# Altium footprint library Miscellaneous Devices LC.PcbLib: 559 footprints (part 34 of 35)
Each footprint in its own frame and in the unit in brackets; x right, y up, seen from the top. Pads: shape width x height; smd on the part's side, far side on the other; paste and mask are expansions set on the pad; w line width, h text height; cw(c..) or ccw(c..) is an arc to the next point about the centre after c.
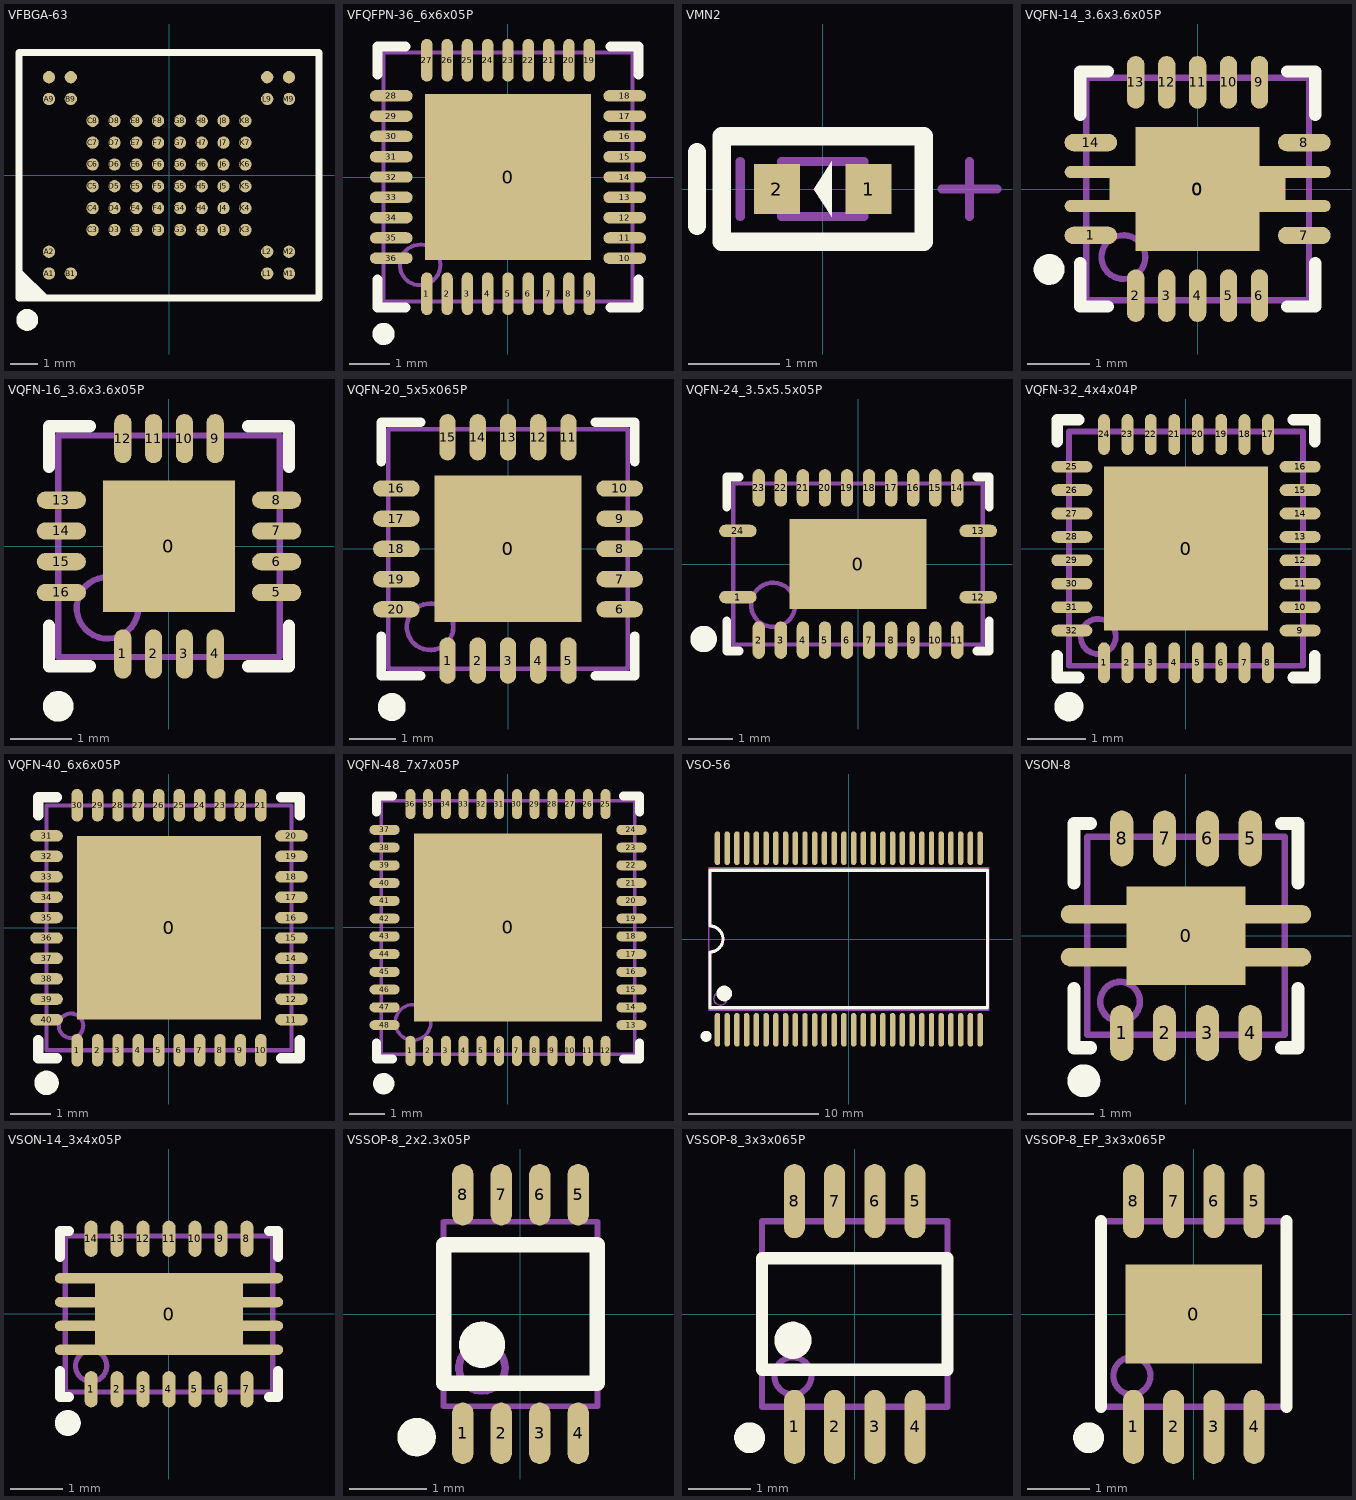
[diagram p33: the footprints below, top view; thin cyan lines are the x and y axes]

## VFBGA-63 [mm]
pads (63):
  round 0.45 smd mask+0.051: A1(-4.4,-3.6) A2(-4.4,-2.8) A9(-4.4,2.8) A10(-4.4,3.6) B1(-3.6,-3.6) B9(-3.6,2.8) B10(-3.6,3.6) C3(-2.8,-2) C4(-2.8,-1.2) C5(-2.8,-0.4) C6(-2.8,0.4) C7(-2.8,1.2) C8(-2.8,2) D3(-2,-2) D4(-2,-1.2) D5(-2,-0.4) D6(-2,0.4) D7(-2,1.2) D8(-2,2) E3(-1.2,-2) E4(-1.2,-1.2) E5(-1.2,-0.4) E6(-1.2,0.4) E7(-1.2,1.2) E8(-1.2,2) F3(-0.4,-2) F4(-0.4,-1.2) F5(-0.4,-0.4) F6(-0.4,0.4) F7(-0.4,1.2) F8(-0.4,2) G3(0.4,-2) G4(0.4,-1.2) G5(0.4,-0.4) G6(0.4,0.4) G7(0.4,1.2) G8(0.4,2) H3(1.2,-2) H4(1.2,-1.2) H5(1.2,-0.4) H6(1.2,0.4) H7(1.2,1.2) H8(1.2,2) J3(2,-2) J4(2,-1.2) J5(2,-0.4) J6(2,0.4) J7(2,1.2) J8(2,2) K3(2.8,-2) K4(2.8,-1.2) K5(2.8,-0.4) K6(2.8,0.4) K7(2.8,1.2) K8(2.8,2) L1(3.6,-3.6) L2(3.6,-2.8) L9(3.6,2.8) L10(3.6,3.6) M1(4.4,-3.6) M2(4.4,-2.8) M9(4.4,2.8) M10(4.4,3.6)
Top Overlay:
  circle w0.4: c-5.2,-5.3 r0.2
  region: -5.5,-3.5 -4.5,-4.5 -5.5,-4.5
  lines w0.2: -5.5,-3.5 -4.5,-4.5
  lines w0.254: -5.5,-4.5 5.5,-4.5 5.5,4.5 -5.5,4.5 -5.5,-4.5

## VFQFPN-36_6x6x05P [mm]
pads (37):
  rect 4.1x4.1 smd mask+0.051: 0(0,0)
  oval 0.28x1.05 smd mask+0.051: 1(-2,-2.875) 2(-1.5,-2.875) 3(-1,-2.875) 4(-0.5,-2.875) 5(0,-2.875) 6(0.5,-2.875) 7(1,-2.875) 8(1.5,-2.875) 9(2,-2.875) 19(2,2.875) 20(1.5,2.875) 21(1,2.875) 22(0.5,2.875) 23(0,2.875) 24(-0.5,2.875) 25(-1,2.875) 26(-1.5,2.875) 27(-2,2.875)
  oval 1.05x0.28 smd mask+0.051: 10(2.875,-2) 11(2.875,-1.5) 12(2.875,-1) 13(2.875,-0.5) 14(2.875,0) 15(2.875,0.5) 16(2.875,1) 17(2.875,1.5) 18(2.875,2) 28(-2.875,2) 29(-2.875,1.5) 30(-2.875,1) 31(-2.875,0.5) 32(-2.875,0) 33(-2.875,-0.5) 34(-2.875,-1) 35(-2.875,-1.5) 36(-2.875,-2)
Top Overlay:
  circle w0.3: c-3.065,-3.865 r0.125
  lines w0.254: -3.215,-2.525 -3.215,-3.215 -2.525,-3.215 ; -3.215,2.525 -3.215,3.215 -2.525,3.215 ; 2.525,-3.215 3.215,-3.215 3.215,-2.525 ; 2.525,3.215 3.215,3.215 3.215,2.525
Mechanical 13:
  circle w0.1: c-2.165,-2.165 r0.5
  lines w0.1: -3.065,-3.065 -3.065,3.065 3.065,3.065 3.065,-3.065 -3.065,-3.065

## VMN2 [mm] "ROHM Semic, Ultra small mold type. (VMN2)"
pads (2):
  rect 0.5x0.55 smd: 1(0.5,0) 2(-0.5,0)
Top Overlay:
  region: 0.1,-0.3 0.1,0.3 -0.1,0
  lines w0.2: -1.372,-0.4 -1.372,0.4 ; -1.1,-0.575 1.1,-0.575 1.1,0.575 -1.1,0.575 -1.1,-0.575
Mechanical 13:
  lines w0.1: -0.45,-0.3 -0.45,0.3 0.45,0.3 0.45,-0.3 -0.45,-0.3
Mechanical 15:
  lines w0.1: -0.9,-0.3 -0.9,0.3 ; 1.3,0 1.9,0 ; 1.6,-0.3 1.6,0.3

## VQFN-14_3.6x3.6x05P [mm]
pads (18):
  rect 2.85x0.35 smd mask+0.051: 0(0,0)
  rect 2x2 smd mask+0.051: 0(0,0)
  oval 0.85x0.28 smd mask+0.051: 1(-1.725,-0.75) 7(1.725,-0.753) 8(1.725,0.75) 14(-1.725,0.75)
  oval 0.28x0.85 smd mask+0.051: 2(-1,-1.725) 3(-0.5,-1.725) 4(0,-1.725) 5(0.5,-1.725) 6(1,-1.725) 9(1,1.725) 10(0.5,1.725) 11(0,1.725) 12(-0.5,1.725) 13(-1,1.725)
  oval 4.3x0.2 smd mask+0.051: ""(0,-0.275) ""(0,0.275)
Top Overlay:
  circle w0.25: c-2.4,-1.3 r0.125
  lines w0.2: -1.9,-1.2 -1.9,-1.9 -1.45,-1.9 ; -1.9,1.2 -1.9,1.9 -1.45,1.9 ; 1.45,-1.9 1.9,-1.9 1.9,-1.2 ; 1.45,1.9 1.9,1.9 1.9,1.2
Mechanical 13:
  circle w0.1: c-1.2,-1.1 r0.354
  lines w0.1: -1.8,-1.8 1.8,-1.8 1.8,1.8 -1.8,1.8 -1.8,-1.8

## VQFN-16_3.6x3.6x05P [mm]
pads (17):
  rect 2.14x2.14 smd paste-1.07 mask+0.051: 0(0,0)
  oval 0.28x0.8 smd paste-0.025 mask+0.051: 1(-0.75,-1.75) 2(-0.25,-1.75) 3(0.25,-1.75) 4(0.75,-1.75) 9(0.75,1.75) 10(0.25,1.75) 11(-0.25,1.75) 12(-0.75,1.75)
  oval 0.8x0.28 smd paste-0.025 mask+0.051: 5(1.75,-0.75) 6(1.75,-0.25) 7(1.75,0.25) 8(1.75,0.75) 13(-1.75,0.75) 14(-1.75,0.25) 15(-1.75,-0.25) 16(-1.75,-0.75)
Top Overlay:
  circle w0.25: c-1.8,-2.6 r0.125
  lines w0.2: -1.95,-1.29 -1.95,-1.95 -1.29,-1.95 ; -1.95,1.29 -1.95,1.95 -1.29,1.95 ; 1.29,-1.95 1.95,-1.95 1.95,-1.29 ; 1.29,1.95 1.95,1.95 1.95,1.29
Top Paste:
  rectangle: 0.15,0.15 1,1
  region: -0.15,1 -1,1 -1,0.15 -0.15,0.15
  rectangle: 0.15,-1 1,-0.15
  region: -0.15,-0.15 -1,-0.15 -1,-1 -0.15,-1
Mechanical 13:
  circle w0.1: c-1,-1 r0.5
  lines w0.1: -1.8,-1.8 -1.8,1.8 1.8,1.8 1.8,-1.8 -1.8,-1.8

## VQFN-20_5x5x065P [mm]
pads (21):
  rect 3.15x3.15 smd paste-1.575 mask+0.07: 0(0,0)
  oval 0.35x1 smd paste-0.025 mask+0.07: 1(-1.3,-2.4) 2(-0.65,-2.4) 3(0,-2.4) 4(0.65,-2.4) 5(1.3,-2.4) 11(1.3,2.4) 12(0.65,2.4) 13(0,2.4) 14(-0.65,2.4) 15(-1.3,2.4)
  oval 1x0.35 smd paste-0.025 mask+0.07: 6(2.4,-1.3) 7(2.4,-0.65) 8(2.4,0) 9(2.4,0.65) 10(2.4,1.3) 16(-2.4,1.3) 17(-2.4,0.65) 18(-2.4,0) 19(-2.4,-0.65) 20(-2.4,-1.3)
Top Overlay:
  circle w0.3: c-2.5,-3.4 r0.15
  lines w0.2: -2.725,-1.875 -2.725,-2.725 -1.875,-2.725 ; -2.725,1.875 -2.725,2.725 -1.875,2.725 ; 1.875,-2.725 2.725,-2.725 2.725,-1.875 ; 1.875,2.725 2.725,2.725 2.725,1.875
Top Paste:
  region: -0.15,-0.15 -1.45,-0.15 -1.45,-1.45 -0.15,-1.45
  rectangle: 0.15,-1.45 1.45,-0.15
  rectangle: 0.15,0.15 1.45,1.45
  region: -0.15,1.45 -1.45,1.45 -1.45,0.15 -0.15,0.15
Mechanical 13:
  circle w0.1: c-1.675,-1.675 r0.5
  lines w0.1: -2.575,-2.575 -2.575,2.575 2.575,2.575 2.575,-2.575 -2.575,-2.575

## VQFN-24_3.5x5.5x05P [mm]
pads (25):
  rect 3.1x2.05 smd paste-1.025 mask+0.051: 0(0,0)
  oval 0.85x0.28 smd paste-0.025 mask+0.051: 1(-2.725,-0.75) 12(2.725,-0.75) 13(2.725,0.75) 24(-2.725,0.75)
  oval 0.28x0.85 smd paste-0.025 mask+0.051: 2(-2.25,-1.725) 3(-1.75,-1.725) 4(-1.25,-1.725) 5(-0.75,-1.725) 6(-0.25,-1.725) 7(0.25,-1.725) 8(0.75,-1.725) 9(1.25,-1.725) 10(1.75,-1.725) 11(2.25,-1.725) 14(2.25,1.725) 15(1.75,1.725) 16(1.25,1.725) 17(0.75,1.725) 18(0.25,1.725) 19(-0.25,1.725) 20(-0.75,1.725) 21(-1.25,1.725) 22(-1.75,1.725) 23(-2.25,1.725)
Top Overlay:
  circle w0.3: c-3.5,-1.7 r0.15
  lines w0.2: -2.975,-1.29 -2.975,-1.975 -2.7,-1.975 ; -2.975,1.29 -2.975,1.975 -2.7,1.975 ; 2.7,-1.975 2.975,-1.975 2.975,-1.29 ; 2.7,1.975 2.975,1.975 2.975,1.29
Top Paste:
  rectangle: -1.465,-0.975 -0.145,-0.155
  region: 1.475,-0.155 0.155,-0.155 0.155,-0.975 1.475,-0.975
  region: 1.475,0.965 0.155,0.965 0.155,0.145 1.475,0.145
  rectangle: -1.465,0.145 -0.145,0.965
Mechanical 13:
  circle w0.1: c-1.925,-0.925 r0.5
  lines w0.1: -2.825,-1.825 2.825,-1.825 2.825,1.825 -2.825,1.825 -2.825,-1.825

## VQFN-32_4x4x04P [mm]
pads (33):
  rect 2.8x2.8 smd paste-0.025 mask+0.051: 0(0,0)
  oval 0.2x0.7 smd paste-0.025 mask+0.051: 1(-1.4,-1.95) 2(-1,-1.95) 3(-0.6,-1.95) 4(-0.2,-1.95) 5(0.2,-1.95) 6(0.6,-1.95) 7(1,-1.95) 8(1.4,-1.95) 17(1.4,1.95) 18(1,1.95) 19(0.6,1.95) 20(0.2,1.95) 21(-0.2,1.95) 22(-0.6,1.95) 23(-1,1.95) 24(-1.4,1.95)
  oval 0.7x0.2 smd paste-0.025 mask+0.051: 9(1.95,-1.4) 10(1.95,-1) 11(1.95,-0.6) 12(1.95,-0.2) 13(1.95,0.2) 14(1.95,0.6) 15(1.95,1) 16(1.95,1.4) 25(-1.95,1.4) 26(-1.95,1) 27(-1.95,0.6) 28(-1.95,0.2) 29(-1.95,-0.2) 30(-1.95,-0.6) 31(-1.95,-1) 32(-1.95,-1.4)
Top Overlay:
  circle w0.25: c-2,-2.7 r0.125
  lines w0.2: -2.2,-1.83 -2.2,-2.2 -1.83,-2.2 ; -2.2,1.83 -2.2,2.2 -1.83,2.2 ; 1.83,-2.2 2.2,-2.2 2.2,-1.83 ; 1.83,2.2 2.2,2.2 2.2,1.83
Mechanical 13:
  circle w0.1: c-1.5,-1.5 r0.3
  lines w0.1: -2,-2 -2,2 2,2 2,-2 -2,-2

## VQFN-40_6x6x05P [mm]
pads (41):
  rect 4.5x4.5 smd mask+0.051: 0(0,0)
  oval 0.28x0.8 smd mask+0.051: 1(-2.25,-3) 2(-1.75,-3) 3(-1.25,-3) 4(-0.75,-3) 5(-0.25,-3) 6(0.25,-3) 7(0.75,-3) 8(1.25,-3) 9(1.75,-3) 10(2.25,-3) 21(2.25,3) 22(1.75,3) 23(1.25,3) 24(0.75,3) 25(0.25,3) 26(-0.25,3) 27(-0.75,3) 28(-1.25,3) 29(-1.75,3) 30(-2.25,3)
  oval 0.8x0.28 smd mask+0.051: 11(3,-2.25) 12(3,-1.75) 13(3,-1.25) 14(3,-0.75) 15(3,-0.25) 16(3,0.25) 17(3,0.75) 18(3,1.25) 19(3,1.75) 20(3,2.25) 31(-3,2.25) 32(-3,1.75) 33(-3,1.25) 34(-3,0.75) 35(-3,0.25) 36(-3,-0.25) 37(-3,-0.75) 38(-3,-1.25) 39(-3,-1.75) 40(-3,-2.25)
Top Overlay:
  circle w0.3: c-3,-3.8 r0.15
  lines w0.254: -3.2,-2.75 -3.2,-3.2 -2.75,-3.2 ; -3.2,2.75 -3.2,3.2 -2.75,3.2 ; 2.75,-3.2 3.2,-3.2 3.2,-2.75 ; 2.75,3.2 3.2,3.2 3.2,2.75
Mechanical 13:
  circle w0.1: c-2.4,-2.4 r0.3
  lines w0.1: -3,-3 3,-3 3,3 -3,3 -3,-3

## VQFN-48_7x7x05P [mm]
pads (49):
  rect 5.3x5.3 smd paste-2.65 mask+0.051: 0(0,0)
  oval 0.28x0.85 smd paste-0.025 mask+0.051: 1(-2.75,-3.475) 2(-2.25,-3.475) 3(-1.75,-3.475) 4(-1.25,-3.475) 5(-0.75,-3.475) 6(-0.25,-3.475) 7(0.25,-3.475) 8(0.75,-3.475) 9(1.25,-3.475) 10(1.75,-3.475) 11(2.25,-3.475) 12(2.75,-3.475) 25(2.75,3.475) 26(2.25,3.475) 27(1.75,3.475) 28(1.25,3.475) 29(0.75,3.475) 30(0.25,3.475) 31(-0.25,3.475) 32(-0.75,3.475) 33(-1.25,3.475) 34(-1.75,3.475) 35(-2.25,3.475) 36(-2.75,3.475)
  oval 0.85x0.28 smd paste-0.025 mask+0.051: 13(3.475,-2.75) 14(3.475,-2.25) 15(3.475,-1.75) 16(3.475,-1.25) 17(3.475,-0.75) 18(3.475,-0.25) 19(3.475,0.25) 20(3.475,0.75) 21(3.475,1.25) 22(3.475,1.75) 23(3.475,2.25) 24(3.475,2.75) 37(-3.475,2.75) 38(-3.475,2.25) 39(-3.475,1.75) 40(-3.475,1.25) 41(-3.475,0.75) 42(-3.475,0.25) 43(-3.475,-0.25) 44(-3.475,-0.75) 45(-3.475,-1.25) 46(-3.475,-1.75) 47(-3.475,-2.25) 48(-3.475,-2.75)
Top Overlay:
  circle w0.3: c-3.5,-4.4 r0.15
  lines w0.254: -3.7,-3.25 -3.7,-3.7 -3.25,-3.7 ; -3.7,3.25 -3.7,3.7 -3.25,3.7 ; 3.25,-3.7 3.7,-3.7 3.7,-3.25 ; 3.25,3.7 3.7,3.7 3.7,3.25
Top Paste:
  rectangle: 0.1,0.1 1.2,1.2
  rectangle: 0.1,1.4 1.2,2.55
  rectangle: 1.4,0.1 2.55,1.2
  rectangle: 1.4,1.4 2.55,2.55
  region: -1.4,2.55 -2.55,2.55 -2.55,1.4 -1.4,1.4
  region: -1.4,1.2 -2.55,1.2 -2.55,0.1 -1.4,0.1
  region: -0.1,2.55 -1.2,2.55 -1.2,1.4 -0.1,1.4
  region: -0.1,1.2 -1.2,1.2 -1.2,0.1 -0.1,0.1
  region: -2.55,-1.4 -2.55,-2.55 -1.4,-2.55 -1.4,-1.4
  region: -1.225,-1.425 -1.225,-2.525 -0.075,-2.525 -0.075,-1.425
  region: -2.525,-0.075 -2.525,-1.225 -1.425,-1.225 -1.425,-0.075
  region: -1.2,-0.1 -1.2,-1.2 -0.1,-1.2 -0.1,-0.1
  region: 1.4,-1.4 1.4,-2.55 2.55,-2.55 2.55,-1.4
  region: 0.075,-1.425 0.075,-2.525 1.225,-2.525 1.225,-1.425
  region: 1.425,-0.075 1.425,-1.225 2.525,-1.225 2.525,-0.075
  region: 0.1,-0.1 0.1,-1.2 1.2,-1.2 1.2,-0.1
Mechanical 13:
  circle w0.1: c-2.675,-2.675 r0.5
  lines w0.1: -3.575,-3.575 -3.575,3.575 3.575,3.575 3.575,-3.575 -3.575,-3.575

## VSO-56 [mm]
pads (56):
  oval 0.42x2.6 smd: 1(-10.125,-7) 2(-9.375,-7) 3(-8.625,-7) 4(-7.875,-7) 5(-7.125,-7) 6(-6.375,-7) 7(-5.625,-7) 8(-4.875,-7) 9(-4.125,-7) 10(-3.375,-7) 11(-2.625,-7) 12(-1.875,-7) 13(-1.125,-7) 14(-0.375,-7) 15(0.375,-7) 16(1.125,-7) 17(1.875,-7) 18(2.625,-7) 19(3.375,-7) 20(4.125,-7) 21(4.875,-7) 22(5.625,-7) 23(6.375,-7) 24(7.125,-7) 25(7.875,-7) 26(8.625,-7) 27(9.375,-7) 28(10.125,-7) 29(10.125,7) 30(9.375,7) 31(8.625,7) 32(7.875,7) 33(7.125,7) 34(6.375,7) 35(5.625,7) 36(4.875,7) 37(4.125,7) 38(3.375,7) 39(2.625,7) 40(1.875,7) 41(1.125,7) 42(0.375,7) 43(-0.375,7) 44(-1.125,7) 45(-1.875,7) 46(-2.625,7) 47(-3.375,7) 48(-4.125,7) 49(-4.875,7) 50(-5.625,7) 51(-6.375,7) 52(-7.125,7) 53(-7.875,7) 54(-8.625,7) 55(-9.375,7) 56(-10.125,7)
Top Overlay:
  circle w0.6: c-9.6,-4.2 r0.3
  circle w0.45: c-11,-7.5 r0.2
  lines w0.254: -10.7,-5.3 10.7,-5.3 10.7,5.3 -10.7,5.3 -10.7,1 cw(c-10.7,0) -10.7,-1 -10.7,-5.3
Mechanical 13:
  circle w0.1: c-9.9,-4.6 r0.5
  lines w0.1: -10.8,-5.5 -10.8,5.5 10.8,5.5 10.8,-5.5 -10.8,-5.5

## VSON-8 [mm]
pads (11):
  rect 1.8x1.5 smd: 0(0,0)
  oval 0.35x0.85 smd: 1(-0.975,-1.475) 2(-0.325,-1.475) 3(0.325,-1.475) 4(0.975,-1.475) 5(0.975,1.475) 6(0.325,1.475) 7(-0.325,1.475) 8(-0.975,1.475)
  oval 3.8x0.28 smd: ""(0,-0.325) ""(0,0.325)
Top Overlay:
  circle w0.25: c-1.55,-2.2 r0.125
  lines w0.2: -1.7,-0.8 -1.7,-1.7 -1.45,-1.7 ; -1.7,0.8 -1.7,1.7 -1.45,1.7 ; 1.45,-1.7 1.7,-1.7 1.7,-0.8 ; 1.45,1.7 1.7,1.7 1.7,0.8
Mechanical 13:
  circle w0.1: c-1,-1 r0.3
  lines w0.1: -1.5,-1.5 1.5,-1.5 1.5,1.5 -1.5,1.5 -1.5,-1.5

## VSON-14_3x4x05P [mm]
pads (19):
  rect 2.85x1.58 smd mask+0.051: 0(0,0)
  oval 0.25x0.7 smd mask+0.051: 1(-1.5,-1.45) 2(-1,-1.45) 3(-0.5,-1.45) 4(0,-1.45) 5(0.5,-1.45) 6(1,-1.45) 7(1.5,-1.45) 8(1.5,1.45) 9(1,1.45) 10(0.5,1.45) 11(0,1.45) 12(-0.5,1.45) 13(-1,1.45) 14(-1.5,1.45)
  oval 4.4x0.2 smd mask+0.051: ""(0,-0.69) ""(0,-0.23) ""(0,0.23) ""(0,0.69)
Top Overlay:
  circle w0.25: c-1.95,-2.1 r0.125
  lines w0.2: -2.1,-1.1 -2.1,-1.6 -1.93,-1.6 ; -2.1,1.1 -2.1,1.6 -1.93,1.6 ; 1.93,-1.6 2.1,-1.6 2.1,-1.1 ; 1.93,1.6 2.1,1.6 2.1,1.1
Mechanical 13:
  circle w0.1: c-1.5,-1 r0.3
  lines w0.1: -2,-1.5 2,-1.5 2,1.5 -2,1.5 -2,-1.5

## VSSOP-8_2x2.3x05P [mm]
pads (8):
  oval 0.28x0.8 smd mask+0.051: 1(-0.75,-1.55) 2(-0.25,-1.55) 3(0.25,-1.55) 4(0.75,-1.55) 5(0.75,1.55) 6(0.25,1.55) 7(-0.25,1.55) 8(-0.75,1.55)
Top Overlay:
  circle w0.25: c-1.35,-1.6 r0.125
  circle w0.35: c-0.5,-0.4 r0.125
  lines w0.2: -1,-0.9 1,-0.9 1,0.9 -1,0.9 -1,-0.9
Mechanical 13:
  circle w0.1: c-0.5,-0.7 r0.3
  lines w0.076: -1,-1.2 1,-1.2 1,1.2 -1,1.2 -1,-1.2

## VSSOP-8_3x3x065P [mm]
pads (8):
  oval 0.34x1.2 smd: 1(-0.975,-1.825) 2(-0.325,-1.825) 3(0.325,-1.825) 4(0.975,-1.825) 5(0.975,1.825) 6(0.325,1.825) 7(-0.325,1.825) 8(-0.975,1.825)
Top Overlay:
  circle w0.35: c-1,-0.425 r0.125
  circle w0.25: c-1.7,-2 r0.125
  lines w0.2: -1.5,-0.9 1.5,-0.9 1.5,0.9 -1.5,0.9 -1.5,-0.9
Mechanical 13:
  circle w0.1: c-1,-1 r0.3
  lines w0.1: -1.5,-1.5 1.5,-1.5 1.5,1.5 -1.5,1.5 -1.5,-1.5

## VSSOP-8_EP_3x3x065P [mm]
pads (9):
  rect 2.2x1.6 smd mask+0.051: 0(0,0)
  oval 0.34x1.2 smd: 1(-0.975,-1.825) 2(-0.325,-1.825) 3(0.325,-1.825) 4(0.975,-1.825) 5(0.975,1.825) 6(0.325,1.825) 7(-0.325,1.825) 8(-0.975,1.825)
Top Overlay:
  circle w0.25: c-1.7,-2 r0.125
  lines w0.2: -1.5,-1.5 -1.5,1.5 ; 1.5,-1.5 1.5,1.5
Mechanical 13:
  circle w0.1: c-1,-1 r0.3
  lines w0.1: -1.5,-1.5 -1.5,1.5 1.5,1.5 1.5,-1.5 -1.5,-1.5